# Altium schematic symbol library 2336582-1.SchLib: 1 symbol
Pins are listed as number, name and electrical type; pins without a type are passive.

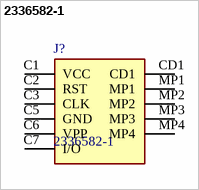
[diagram p0: symbol 2336582-1]

## 2336582-1
designator J?
4FF SIM, Push-Push Type, 7 Position, 7 Loaded Positions, Signal, -40  80 C [-40  185 F], SIM Card Connectors; Manufacturer_Name: TE Connectivity; Geometry.Height: 1.62mm; Mouser Part Number: *; Mouser Price/Stock: *; Manufacturer_Part_Number: 2336582-1; Datasheet Link: https://www.te.com/en/product-2336582-1.html
footprint 23365821
pins: C1 VCC, C2 RST, C3 CLK, C5 GND, C6 VPP, C7 I/O, CD1, MP1, MP2, MP3, MP4